# Altium footprint library FullyDigital.PcbLib: 55 footprints (part 1 of 4)
Each footprint in its own frame and in the unit in brackets; x right, y up, seen from the top. Pads: shape width x height; smd on the part's side, far side on the other; paste and mask are expansions set on the pad; w line width, h text height; cw(c..) or ccw(c..) is an arc to the next point about the centre after c.
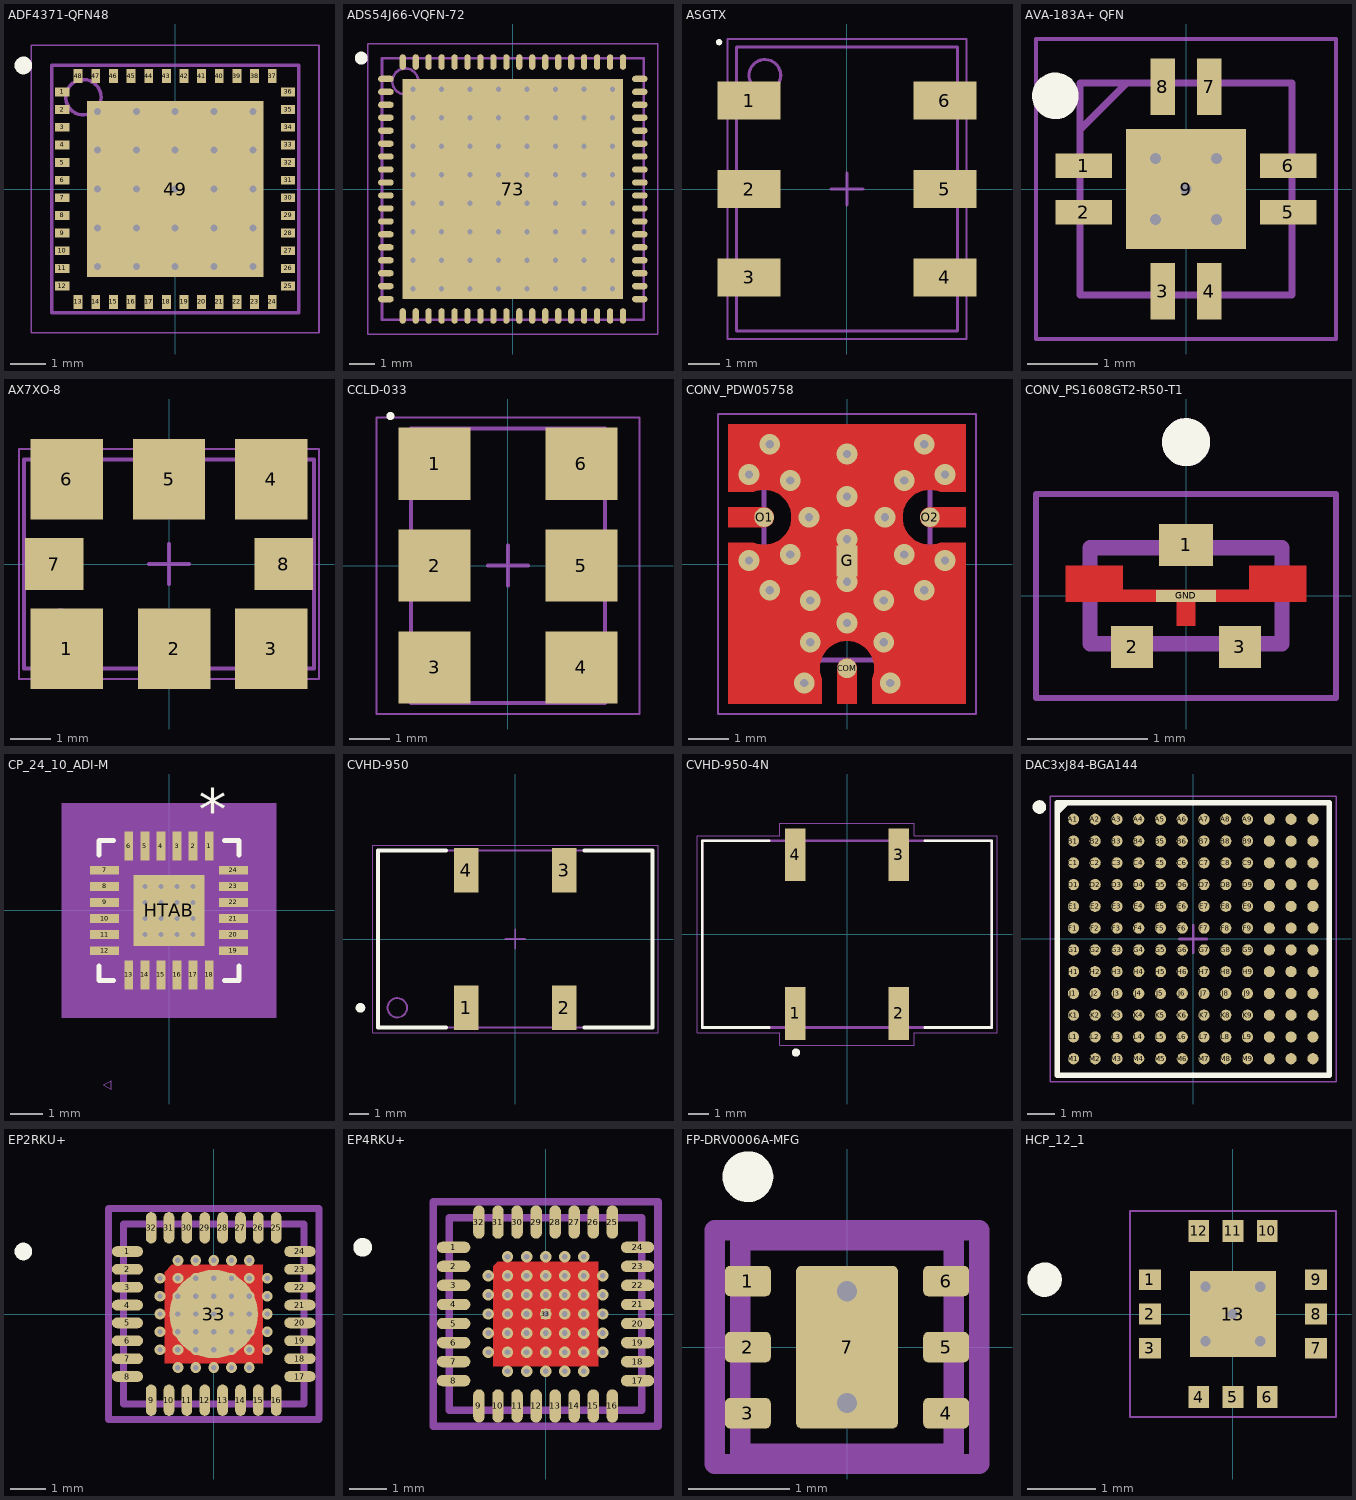
[diagram p0: the footprints below, top view; thin cyan lines are the x and y axes]

## ADF4371-QFN48 [mm] "QFN, 48-Leads, Body 7.00x7.00mm, Pitch 0.50mm, Thermal Pad 6.00x6.00mm, IPC Medium Density"
height 1.16
pads (49):
  rect 0.4x0.25 smd: 1(-3.2,2.75) 2(-3.2,2.25) 3(-3.2,1.75) 4(-3.2,1.25) 5(-3.2,0.75) 6(-3.2,0.25) 7(-3.2,-0.25) 8(-3.2,-0.75) 9(-3.2,-1.25) 10(-3.2,-1.75) 11(-3.2,-2.25) 12(-3.2,-2.75) 25(3.2,-2.75) 26(3.2,-2.25) 27(3.2,-1.75) 28(3.2,-1.25) 29(3.2,-0.75) 30(3.2,-0.25) 31(3.2,0.25) 32(3.2,0.75) 33(3.2,1.25) 34(3.2,1.75) 35(3.2,2.25) 36(3.2,2.75)
  rect 0.25x0.4 smd: 13(-2.75,-3.2) 14(-2.25,-3.2) 15(-1.75,-3.2) 16(-1.25,-3.2) 17(-0.75,-3.2) 18(-0.25,-3.2) 19(0.25,-3.2) 20(0.75,-3.2) 21(1.25,-3.2) 22(1.75,-3.2) 23(2.25,-3.2) 24(2.75,-3.2) 37(2.75,3.2) 38(2.25,3.2) 39(1.75,3.2) 40(1.25,3.2) 41(0.75,3.2) 42(0.25,3.2) 43(-0.25,3.2) 44(-0.75,3.2) 45(-1.25,3.2) 46(-1.75,3.2) 47(-2.25,3.2) 48(-2.75,3.2)
  rect 5x5 smd: 49(0,0)
via -2.2,2.2 diameter 0.5 hole 0.2
via -1.1,2.2 diameter 0.5 hole 0.2
via 0,2.2 diameter 0.5 hole 0.2
via 1.1,2.2 diameter 0.5 hole 0.2
via 2.2,2.2 diameter 0.5 hole 0.2
via -2.2,1.1 diameter 0.5 hole 0.2
via -1.1,1.1 diameter 0.5 hole 0.2
via 0,1.1 diameter 0.5 hole 0.2
via 1.1,1.1 diameter 0.5 hole 0.2
via 2.2,1.1 diameter 0.5 hole 0.2
via -2.2,0 diameter 0.5 hole 0.2
via -1.1,0 diameter 0.5 hole 0.2
via 0,0 diameter 0.5 hole 0.2
via 1.1,0 diameter 0.5 hole 0.2
via 2.2,0 diameter 0.5 hole 0.2
via -2.2,-1.1 diameter 0.5 hole 0.2
via -1.1,-1.1 diameter 0.5 hole 0.2
via 0,-1.1 diameter 0.5 hole 0.2
via 1.1,-1.1 diameter 0.5 hole 0.2
via 2.2,-1.1 diameter 0.5 hole 0.2
via -2.2,-2.2 diameter 0.5 hole 0.2
via -1.1,-2.2 diameter 0.5 hole 0.2
via 0,-2.2 diameter 0.5 hole 0.2
via 1.1,-2.2 diameter 0.5 hole 0.2
via 2.2,-2.2 diameter 0.5 hole 0.2
Top Overlay:
  circle w0.25: c-4.3,3.5 r0.125
Mechanical 13:
  circle w0.1: c-2.6,2.6 r0.5
  lines w0.1: -3.5,-3.5 -3.5,3.5 3.5,3.5 3.5,-3.5 -3.5,-3.5
Mechanical 15:
  lines w0.05: -4.075,-4.075 -4.075,4.075 4.075,4.075 4.075,-4.075 -4.075,-4.075
  lines w0.1: -0.5,0 0.5,0 ; 0,-0.5 0,0.5
3D body: height 1.16, standoff 0.4, extent -3.5,-3.5 3.5,3.5

## ADS54J66-VQFN-72 [mm] "QFN, 72-Leads, Body 10.00x10.00mm, Pitch 0.50mm, Thermal Pad 8.50x8.50mm, IPC Medium Density"
height 0.9
pads (73):
  oval 0.6x0.24 smd mask+0.051: 1(-4.9,4.25) 2(-4.9,3.75) 3(-4.9,3.25) 4(-4.9,2.75) 5(-4.9,2.25) 6(-4.9,1.75) 7(-4.9,1.25) 8(-4.9,0.75) 9(-4.9,0.25) 10(-4.9,-0.25) 11(-4.9,-0.75) 12(-4.9,-1.25) 13(-4.9,-1.75) 14(-4.9,-2.25) 15(-4.9,-2.75) 16(-4.9,-3.25) 17(-4.9,-3.75) 18(-4.9,-4.25) 37(4.9,-4.25) 38(4.9,-3.75) 39(4.9,-3.25) 40(4.9,-2.75) 41(4.9,-2.25) 42(4.9,-1.75) 43(4.9,-1.25) 44(4.9,-0.75) 45(4.9,-0.25) 46(4.9,0.25) 47(4.9,0.75) 48(4.9,1.25) 49(4.9,1.75) 50(4.9,2.25) 51(4.9,2.75) 52(4.9,3.25) 53(4.9,3.75) 54(4.9,4.25)
  oval 0.24x0.6 smd mask+0.051: 19(-4.25,-4.9) 20(-3.75,-4.9) 21(-3.25,-4.9) 22(-2.75,-4.9) 23(-2.25,-4.9) 24(-1.75,-4.9) 25(-1.25,-4.9) 26(-0.75,-4.9) 27(-0.25,-4.9) 28(0.25,-4.9) 29(0.75,-4.9) 30(1.25,-4.9) 31(1.75,-4.9) 32(2.25,-4.9) 33(2.75,-4.9) 34(3.25,-4.9) 35(3.75,-4.9) 36(4.25,-4.9) 55(4.25,4.9) 56(3.75,4.9) 57(3.25,4.9) 58(2.75,4.9) 59(2.25,4.9) 60(1.75,4.9) 61(1.25,4.9) 62(0.75,4.9) 63(0.25,4.9) 64(-0.25,4.9) 65(-0.75,4.9) 66(-1.25,4.9) 67(-1.75,4.9) 68(-2.25,4.9) 69(-2.75,4.9) 70(-3.25,4.9) 71(-3.75,4.9) 72(-4.25,4.9)
  rect 8.5x8.5 smd mask+0.051: 73(0,0)
via -3.85,3.85 diameter 0.5 hole 0.2
via -2.75,3.85 diameter 0.5 hole 0.2
via -1.65,3.85 diameter 0.5 hole 0.2
via -0.55,3.85 diameter 0.5 hole 0.2
via 0.55,3.85 diameter 0.5 hole 0.2
via 1.65,3.85 diameter 0.5 hole 0.2
via 2.75,3.85 diameter 0.5 hole 0.2
via 3.85,3.85 diameter 0.5 hole 0.2
via -3.85,2.75 diameter 0.5 hole 0.2
via -2.75,2.75 diameter 0.5 hole 0.2
via -1.65,2.75 diameter 0.5 hole 0.2
via -0.55,2.75 diameter 0.5 hole 0.2
via 0.55,2.75 diameter 0.5 hole 0.2
via 1.65,2.75 diameter 0.5 hole 0.2
via 2.75,2.75 diameter 0.5 hole 0.2
via 3.85,2.75 diameter 0.5 hole 0.2
via -3.85,1.65 diameter 0.5 hole 0.2
via -2.75,1.65 diameter 0.5 hole 0.2
via -1.65,1.65 diameter 0.5 hole 0.2
via -0.55,1.65 diameter 0.5 hole 0.2
via 0.55,1.65 diameter 0.5 hole 0.2
via 1.65,1.65 diameter 0.5 hole 0.2
via 2.75,1.65 diameter 0.5 hole 0.2
via 3.85,1.65 diameter 0.5 hole 0.2
via -3.85,0.55 diameter 0.5 hole 0.2
via -2.75,0.55 diameter 0.5 hole 0.2
via -1.65,0.55 diameter 0.5 hole 0.2
via -0.55,0.55 diameter 0.5 hole 0.2
via 0.55,0.55 diameter 0.5 hole 0.2
via 1.65,0.55 diameter 0.5 hole 0.2
via 2.75,0.55 diameter 0.5 hole 0.2
via 3.85,0.55 diameter 0.5 hole 0.2
via -3.85,-0.55 diameter 0.5 hole 0.2
via -2.75,-0.55 diameter 0.5 hole 0.2
via -1.65,-0.55 diameter 0.5 hole 0.2
via -0.55,-0.55 diameter 0.5 hole 0.2
via 0.55,-0.55 diameter 0.5 hole 0.2
via 1.65,-0.55 diameter 0.5 hole 0.2
via 2.75,-0.55 diameter 0.5 hole 0.2
via 3.85,-0.55 diameter 0.5 hole 0.2
via -3.85,-1.65 diameter 0.5 hole 0.2
via -2.75,-1.65 diameter 0.5 hole 0.2
via -1.65,-1.65 diameter 0.5 hole 0.2
via -0.55,-1.65 diameter 0.5 hole 0.2
via 0.55,-1.65 diameter 0.5 hole 0.2
via 1.65,-1.65 diameter 0.5 hole 0.2
via 2.75,-1.65 diameter 0.5 hole 0.2
via 3.85,-1.65 diameter 0.5 hole 0.2
via -3.85,-2.75 diameter 0.5 hole 0.2
via -2.75,-2.75 diameter 0.5 hole 0.2
via -1.65,-2.75 diameter 0.5 hole 0.2
via -0.55,-2.75 diameter 0.5 hole 0.2
via 0.55,-2.75 diameter 0.5 hole 0.2
via 1.65,-2.75 diameter 0.5 hole 0.2
via 2.75,-2.75 diameter 0.5 hole 0.2
via 3.85,-2.75 diameter 0.5 hole 0.2
via -3.85,-3.85 diameter 0.5 hole 0.2
via -2.75,-3.85 diameter 0.5 hole 0.2
via -1.65,-3.85 diameter 0.5 hole 0.2
via -0.55,-3.85 diameter 0.5 hole 0.2
via 0.55,-3.85 diameter 0.5 hole 0.2
via 1.65,-3.85 diameter 0.5 hole 0.2
via 2.75,-3.85 diameter 0.5 hole 0.2
via 3.85,-3.85 diameter 0.5 hole 0.2
Top Overlay:
  circle w0.25: c-5.85,5.05 r0.125
Mechanical 13:
  circle w0.1: c-4.15,4.15 r0.5
  lines w0.1: -5.05,-5.05 -5.05,5.05 5.05,5.05 5.05,-5.05 -5.05,-5.05
Mechanical 15:
  lines w0.05: -5.6,-5.6 -5.6,5.6 5.6,5.6 5.6,-5.6 -5.6,-5.6
  lines w0.1: -0.5,0 0.5,0 ; 0,-0.5 0,0.5
3D body: height 0.9, standoff 0.05, extent -5.05,-5.05 5.05,5.05

## ASGTX [mm] "6-Leads, Body 9.00x7.00mm, Pitch 2.80mm, IPC Medium Density"
height 2.24
pads (6):
  rect 2x1.2 smd: 1(-3.1,2.8) 2(-3.1,0) 3(-3.1,-2.8) 4(3.1,-2.8) 5(3.1,0) 6(3.1,2.8)
Top Overlay:
  circle w0.1: c-4.05,4.65 r0.05
Mechanical 13:
  circle w0.1: c-2.6,3.6 r0.5
  lines w0.1: -3.5,-4.5 3.5,-4.5 3.5,4.5 -3.5,4.5 -3.5,-4.5
Mechanical 15:
  lines w0.05: -3.785,-4.75 3.785,-4.75 3.785,4.75 -3.785,4.75 -3.785,-4.75
  lines w0.1: -0.5,0 0.5,0 ; 0,-0.5 0,0.5
3D body: height 2.24, standoff 0.1, extent -3.5,-4.5 3.5,4.5

## AVA-183A+ QFN [mm] "QFN66P300X300X89-9N"
pads (9):
  rect 0.8x0.35 smd mask+0.025: 1(-1.45,0.33) 2(-1.45,-0.33) 5(1.45,-0.33) 6(1.45,0.33)
  rect 0.35x0.8 smd mask+0.025: 3(-0.33,-1.45) 4(0.33,-1.45) 7(0.33,1.45) 8(-0.33,1.45)
  rect 1.702x1.702 smd mask+0.025: 9(0,0)
via 0.432,-0.432 diameter 0.305 hole 0.152
via -0.432,-0.432 diameter 0.305 hole 0.152
via -0.432,0.432 diameter 0.305 hole 0.152
via 0.432,0.432 diameter 0.305 hole 0.152
via 0,0 diameter 0.305 hole 0.152
Top Overlay:
  circle w0.33: c-1.85,1.32 r0.165
Mechanical 13:
  lines w0.1: -1.5,0.84 -0.84,1.5 ; -1.5,-1.5 1.5,-1.5 1.5,1.5 -1.5,1.5 -1.5,-1.5
Mechanical 15:
  lines w0.05: -2.125,-2.125 2.125,-2.125 2.125,2.125 -2.125,2.125 -2.125,-2.125
3D body "AVA-183A+.stp": height 0.89, standoff 0, extent -1.55,-1.55 1.55,1.55

## AX7XO-8 [mm] "AX7 oscilliator, 8-Leads, Body 5.00x7.00mm, IPC Medium Density"
height 1.9
pads (8):
  rect 1.8x2 smd: 1(-2.54,-2.1) 2(0.127,-2.1) 3(2.54,-2.1) 4(2.54,2.1) 5(0,2.1) 6(-2.54,2.1)
  rect 1.45x1.3 smd: 7(-2.85,0) 8(2.85,0)
Mechanical 13:
  circle w0.1: c-2.667,-1.651 r0.5
  lines w0.1: -3.6,-2.6 -3.6,2.6 3.6,2.6 3.6,-2.6 -3.6,-2.6
Mechanical 15:
  lines w0.05: -3.725,-2.85 -3.725,2.85 3.725,2.85 3.725,-2.85 -3.725,-2.85
  lines w0.1: -0.5,0 0.5,0 ; 0,-0.5 0,0.5
3D body: height 1.9, standoff 0, extent -3.6,-2.6 3.6,2.6

## CCLD-033 [mm] "6-Leads, Crystal Oscillator, 7mm x 5mm"
height 1.8
pads (6):
  rect 1.8x1.8 smd: 1(-1.83,2.54) 2(-1.83,0) 3(-1.83,-2.54) 4(1.83,-2.54) 5(1.83,0) 6(1.83,2.54)
Top Overlay:
  circle w0.1: c-2.932,3.732 r0.05
Mechanical 13:
  circle w0.1: c-1.525,2.525 r0.5
  lines w0.1: -2.425,-3.425 2.425,-3.425 2.425,3.425 -2.425,3.425 -2.425,-3.425
Mechanical 15:
  lines w0.05: -3.28,-3.7 3.28,-3.7 3.28,3.7 -3.28,3.7 -3.28,-3.7
  lines w0.1: -0.5,0 0.5,0 ; 0,-0.5 0,0.5
3D body: height 1.8, standoff 0.1, extent -2.425,-3.425 2.425,3.425

## CONV_PDW05758 [mm] "6 to 18 GHz Wilkinson  Power Divider"
height 0.508
pads (4):
  round 0.48 smd: COM(0,-2.555) O1(-2.03,1.145) O2(2.03,1.145)
  rect 0.508x0.762 smd paste-0.381 mask+0.102: G(0,0.076)
via 0,2.695 diameter 0.508 hole 0.203
via 0,1.655 diameter 0.508 hole 0.203
via 0,0.605 diameter 0.508 hole 0.203
via 0,-0.435 diameter 0.508 hole 0.203
via 0,-1.445 diameter 0.508 hole 0.203
via 1.89,2.935 diameter 0.508 hole 0.203
via 2.4,2.195 diameter 0.508 hole 0.203
via 1.4,2.045 diameter 0.508 hole 0.203
via 0.93,1.145 diameter 0.508 hole 0.203
via 1.4,0.235 diameter 0.508 hole 0.203
via 2.4,0.085 diameter 0.508 hole 0.203
via 1.89,-0.645 diameter 0.508 hole 0.203
via 0.9,-0.895 diameter 0.508 hole 0.203
via 0.9,-1.915 diameter 0.508 hole 0.203
via 1.06,-2.915 diameter 0.508 hole 0.203
via -1.05,-2.915 diameter 0.508 hole 0.203
via -0.9,-1.915 diameter 0.508 hole 0.203
via -0.9,-0.895 diameter 0.508 hole 0.203
via -1.89,-0.645 diameter 0.508 hole 0.203
via -2.4,0.085 diameter 0.508 hole 0.203
via -1.39,0.235 diameter 0.508 hole 0.203
via -0.93,1.145 diameter 0.508 hole 0.203
via -1.39,2.045 diameter 0.508 hole 0.203
via -1.89,2.935 diameter 0.508 hole 0.203
via -2.4,2.195 diameter 0.508 hole 0.203
Top Layer:
  region: 193 vertices and 0 holes, not listed, extent -2.91,-3.425 2.91,3.425
  region: -2.017,1.385 -2.005,1.384 -1.992,1.382 -1.98,1.38 -1.968,1.377 -1.956,1.373 -1.944,1.369 -1.932,1.364 -1.921,1.359 -1.91,1.353 -1.899,1.346 -1.889,1.339 -1.879,1.332 -1.869,1.323 -1.86,1.315 -1.852,1.306 -1.843,1.296 -1.836,1.286 -1.829,1.276 -1.822,1.265 -1.816,1.254 -1.811,1.243 -1.806,1.231 -1.802,1.219 -1.798,1.207 -1.795,1.195 -1.793,1.183 -1.791,1.17 -1.79,1.158 -1.79,1.145 -1.79,1.132 -1.791,1.12 -1.793,1.107 -1.795,1.095 -1.798,1.083 -1.802,1.071 -1.806,1.059 -1.811,1.047 -1.816,1.036 -1.822,1.025 -1.829,1.014 -1.836,1.004 -1.843,0.994 -1.852,0.984 -1.86,0.975 -1.869,0.967 -1.879,0.958 -1.889,0.951 -1.899,0.944 -1.91,0.937 -1.921,0.931 -1.932,0.926 -1.944,0.921 -1.956,0.917 -1.968,0.913 -1.98,0.91 -1.992,0.908 -2.005,0.906 -2.017,0.905 -2.03,0.905 -2.91,0.905 -2.91,1.385 -2.03,1.385
  region: 2.91,0.905 2.03,0.905 2.017,0.905 2.005,0.906 1.992,0.908 1.98,0.91 1.968,0.913 1.956,0.917 1.944,0.921 1.932,0.926 1.921,0.931 1.91,0.937 1.899,0.944 1.889,0.951 1.879,0.958 1.869,0.967 1.86,0.975 1.852,0.984 1.843,0.994 1.836,1.004 1.829,1.014 1.822,1.025 1.816,1.036 1.811,1.047 1.806,1.059 1.802,1.071 1.798,1.083 1.795,1.095 1.793,1.107 1.791,1.12 1.79,1.132 1.79,1.145 1.79,1.158 1.791,1.17 1.793,1.183 1.795,1.195 1.798,1.207 1.802,1.219 1.806,1.231 1.811,1.243 1.816,1.254 1.822,1.265 1.829,1.276 1.836,1.286 1.843,1.296 1.852,1.306 1.86,1.315 1.869,1.323 1.879,1.332 1.889,1.339 1.899,1.346 1.91,1.353 1.921,1.359 1.932,1.364 1.944,1.369 1.956,1.373 1.968,1.377 1.98,1.38 1.992,1.382 2.005,1.384 2.017,1.385 2.03,1.385 2.91,1.385
  region: 0.013,-2.315 0.025,-2.316 0.038,-2.318 0.05,-2.32 0.062,-2.323 0.074,-2.327 0.086,-2.331 0.098,-2.336 0.109,-2.341 0.12,-2.347 0.131,-2.354 0.141,-2.361 0.151,-2.368 0.161,-2.377 0.17,-2.385 0.178,-2.394 0.187,-2.404 0.194,-2.414 0.201,-2.424 0.208,-2.435 0.214,-2.446 0.219,-2.457 0.224,-2.469 0.228,-2.481 0.232,-2.493 0.235,-2.505 0.237,-2.517 0.239,-2.53 0.24,-2.542 0.24,-2.555 0.24,-3.425 -0.24,-3.425 -0.24,-2.555 -0.24,-2.542 -0.239,-2.53 -0.237,-2.517 -0.235,-2.505 -0.232,-2.493 -0.228,-2.481 -0.224,-2.469 -0.219,-2.457 -0.214,-2.446 -0.208,-2.435 -0.201,-2.424 -0.194,-2.414 -0.187,-2.404 -0.178,-2.394 -0.17,-2.385 -0.161,-2.377 -0.151,-2.368 -0.141,-2.361 -0.131,-2.354 -0.12,-2.347 -0.109,-2.341 -0.098,-2.336 -0.086,-2.331 -0.074,-2.327 -0.062,-2.323 -0.05,-2.32 -0.038,-2.318 -0.025,-2.316 -0.013,-2.315 0,-2.315
Top Paste:
  region: 2.035,1.817 1.991,1.816 1.947,1.812 1.903,1.805 1.86,1.796 1.818,1.783 1.777,1.768 1.737,1.75 1.698,1.729 1.66,1.706 1.624,1.681 1.59,1.653 1.558,1.623 1.528,1.591 1.5,1.557 1.474,1.521 1.451,1.484 1.43,1.445 1.411,1.405 1.396,1.364 1.383,1.321 1.373,1.279 1.366,1.235 1.361,1.191 1.36,1.145 1.361,1.099 1.366,1.055 1.373,1.011 1.383,0.969 1.396,0.926 1.411,0.885 1.43,0.845 1.451,0.806 1.474,0.769 1.5,0.733 1.528,0.699 1.558,0.667 1.59,0.637 1.624,0.609 1.66,0.584 1.698,0.561 1.737,0.54 1.777,0.522 1.818,0.507 1.86,0.494 1.903,0.485 1.947,0.478 1.991,0.474 2.035,0.473 2.035,-2.34 0.637,-2.34 0.621,-2.299 0.604,-2.259 0.583,-2.22 0.56,-2.183 0.535,-2.147 0.507,-2.113 0.478,-2.081 0.446,-2.051 0.412,-2.024 0.377,-1.998 0.339,-1.975 0.301,-1.954 0.261,-1.936 0.22,-1.921 0.178,-1.908 0.136,-1.898 0.093,-1.891 0.049,-1.886 0,-1.885 -0.049,-1.886 -0.093,-1.891 -0.136,-1.898 -0.178,-1.908 -0.22,-1.921 -0.261,-1.936 -0.301,-1.954 -0.339,-1.975 -0.377,-1.998 -0.412,-2.024 -0.446,-2.051 -0.478,-2.081 -0.507,-2.113 -0.535,-2.147 -0.56,-2.183 -0.583,-2.22 -0.604,-2.259 -0.621,-2.299 -0.637,-2.34 -2.035,-2.34 -2.035,0.473 -1.991,0.474 -1.947,0.478 -1.903,0.485 -1.86,0.494 -1.818,0.507 -1.777,0.522 -1.737,0.54 -1.698,0.561 -1.66,0.584 -1.624,0.609 -1.59,0.637 -1.558,0.667 -1.528,0.699 -1.5,0.733 -1.474,0.769 -1.451,0.806 -1.43,0.845 -1.411,0.885 -1.396,0.926 -1.383,0.969 -1.373,1.011 -1.366,1.055 -1.361,1.099 -1.36,1.145 -1.361,1.191 -1.366,1.235 -1.373,1.279 -1.383,1.321 -1.396,1.364 -1.411,1.405 -1.43,1.445 -1.451,1.484 -1.474,1.521 -1.5,1.557 -1.528,1.591 -1.558,1.623 -1.59,1.653 -1.624,1.681 -1.66,1.706 -1.698,1.729 -1.737,1.75 -1.777,1.768 -1.818,1.783 -1.86,1.796 -1.903,1.805 -1.947,1.812 -1.991,1.816 -2.035,1.817 -2.035,2.35 2.035,2.35
Top Solder:
  region: 2.035,1.817 1.991,1.816 1.947,1.812 1.903,1.805 1.86,1.796 1.818,1.783 1.777,1.768 1.737,1.75 1.698,1.729 1.66,1.706 1.624,1.681 1.59,1.653 1.558,1.623 1.528,1.591 1.5,1.557 1.474,1.521 1.451,1.484 1.43,1.445 1.411,1.405 1.396,1.364 1.383,1.321 1.373,1.279 1.366,1.235 1.361,1.191 1.36,1.145 1.361,1.099 1.366,1.055 1.373,1.011 1.383,0.969 1.396,0.926 1.411,0.885 1.43,0.845 1.451,0.806 1.474,0.769 1.5,0.733 1.528,0.699 1.558,0.667 1.59,0.637 1.624,0.609 1.66,0.584 1.698,0.561 1.737,0.54 1.777,0.522 1.818,0.507 1.86,0.494 1.903,0.485 1.947,0.478 1.991,0.474 2.035,0.473 2.035,-2.34 0.637,-2.34 0.621,-2.299 0.604,-2.259 0.583,-2.22 0.56,-2.183 0.535,-2.147 0.507,-2.113 0.478,-2.081 0.446,-2.051 0.412,-2.024 0.377,-1.998 0.339,-1.975 0.301,-1.954 0.261,-1.936 0.22,-1.921 0.178,-1.908 0.136,-1.898 0.093,-1.891 0.049,-1.886 0,-1.885 -0.049,-1.886 -0.093,-1.891 -0.136,-1.898 -0.178,-1.908 -0.22,-1.921 -0.261,-1.936 -0.301,-1.954 -0.339,-1.975 -0.377,-1.998 -0.412,-2.024 -0.446,-2.051 -0.478,-2.081 -0.507,-2.113 -0.535,-2.147 -0.56,-2.183 -0.583,-2.22 -0.604,-2.259 -0.621,-2.299 -0.637,-2.34 -2.035,-2.34 -2.035,0.473 -1.991,0.474 -1.947,0.478 -1.903,0.485 -1.86,0.494 -1.818,0.507 -1.777,0.522 -1.737,0.54 -1.698,0.561 -1.66,0.584 -1.624,0.609 -1.59,0.637 -1.558,0.667 -1.528,0.699 -1.5,0.733 -1.474,0.769 -1.451,0.806 -1.43,0.845 -1.411,0.885 -1.396,0.926 -1.383,0.969 -1.373,1.011 -1.366,1.055 -1.361,1.099 -1.36,1.145 -1.361,1.191 -1.366,1.235 -1.373,1.279 -1.383,1.321 -1.396,1.364 -1.411,1.405 -1.43,1.445 -1.451,1.484 -1.474,1.521 -1.5,1.557 -1.528,1.591 -1.558,1.623 -1.59,1.653 -1.624,1.681 -1.66,1.706 -1.698,1.729 -1.737,1.75 -1.777,1.768 -1.818,1.783 -1.86,1.796 -1.903,1.805 -1.947,1.812 -1.991,1.816 -2.035,1.817 -2.035,2.35 2.035,2.35
Mechanical 13:
  lines w0.127: -2.03,-2.35 2.03,-2.35 2.03,2.35 -2.03,2.35 -2.03,-2.35
Mechanical 15:
  lines w0.05: -3.16,-3.675 3.16,-3.675 3.16,3.675 -3.16,3.675 -3.16,-3.675

## CONV_PS1608GT2-R50-T1 [mm] "RF Power Divider 0 Hz ~ 20 GHz - 0603 (1608 Metric)"
pads (4):
  rect 0.45x0.35 smd mask+0.025: 1(0,0.425)
  rect 0.35x0.35 smd mask+0.025: 2(-0.45,-0.425) 3(0.45,-0.425)
  rect 0.5x0.1 smd paste-1 mask+0: GND(0,0)
Top Layer:
  region: 1,-0.05 0.075,-0.05 0.075,-0.25 -0.075,-0.25 -0.075,-0.05 -1,-0.05 -1,0.25 -0.525,0.25 -0.525,0.05 0.525,0.05 0.525,0.25 1,0.25
Top Overlay:
  circle w0.2: c0,1.28 r0.1
Top Paste:
  region: 1,-0.05 0.075,-0.05 0.075,-0.25 -0.075,-0.25 -0.075,-0.05 -1,-0.05 -1,0.25 -0.525,0.25 -0.525,0.05 0.525,0.05 0.525,0.25 1,0.25
Mechanical 13:
  circle w0.2: c0,1.28 r0.1
  lines w0.127: -0.8,-0.4 -0.8,0.4 0.8,0.4 0.8,-0.4 -0.8,-0.4
Mechanical 15:
  lines w0.05: -1.25,-0.85 -1.25,0.85 1.25,0.85 1.25,-0.85 -1.25,-0.85

## CP_24_10_ADI-M [mm] "ADF4159CCPZ"
height 0.75
pads (25):
  rect 0.275x0.9 smd paste+0 mask+0: 1(1.25,2) 2(0.75,2) 3(0.25,2) 4(-0.25,2) 5(-0.75,2) 6(-1.25,2) 13(-1.25,-2) 14(-0.75,-2) 15(-0.25,-2) 16(0.25,-2) 17(0.75,-2) 18(1.25,-2)
  rect 0.9x0.275 smd paste+0 mask+0: 7(-2,1.25) 8(-2,0.75) 9(-2,0.25) 10(-2,-0.25) 11(-2,-0.75) 12(-2,-1.25) 19(2,-1.25) 20(2,-0.75) 21(2,-0.25) 22(2,0.25) 23(2,0.75) 24(2,1.25)
  rect 2.2x2.2 smd paste+0 mask+0: HTAB(0,0)
via 0.75,-0.75 diameter 0.305 hole 0.152
via 0.25,-0.75 diameter 0.305 hole 0.152
via -0.25,-0.75 diameter 0.305 hole 0.152
via -0.75,-0.75 diameter 0.305 hole 0.152
via -0.75,-0.25 diameter 0.305 hole 0.152
via -0.75,0.25 diameter 0.305 hole 0.152
via -0.75,0.75 diameter 0.305 hole 0.152
via -0.25,0.75 diameter 0.305 hole 0.152
via 0.25,0.75 diameter 0.305 hole 0.152
via 0.75,0.75 diameter 0.305 hole 0.152
via 0.75,0.25 diameter 0.305 hole 0.152
via 0.75,-0.25 diameter 0.305 hole 0.152
via 0.25,-0.25 diameter 0.305 hole 0.152
via -0.25,-0.25 diameter 0.305 hole 0.152
via -0.25,0.25 diameter 0.305 hole 0.152
via 0.25,0.25 diameter 0.305 hole 0.152
Top Overlay:
  lines w0.152: -2.177,-1.72 -2.177,-2.177 -1.72,-2.177 ; -2.177,1.72 -2.177,2.177 -1.72,2.177 ; 1.72,-2.177 2.177,-2.177 2.177,-1.72 ; 1.72,2.177 2.177,2.177 2.177,1.72
  text "*" at 0.933,2.508 h1.27
Mechanical 7:
  lines w0.025: -2.05,-5.425 -1.796,-5.298 -1.796,-5.552 -2.05,-5.425
Mechanical 13:
  region: 3.339,-3.339 -3.339,-3.339 -3.339,3.339 3.339,3.339
  lines w0.025: -2.05,-2.05 2.05,-2.05 2.05,2.05 -2.05,2.05 -2.05,-2.05 ; -2.05,-1.4 -2.05,-1.1 -2.05,-1.4 ; -2.05,-0.9 -2.05,-0.6 -2.05,-0.9 ; -2.05,-0.4 -2.05,-0.1 -2.05,-0.4 ; -2.05,0.1 -2.05,0.4 -2.05,0.1 ; -2.05,0.6 -2.05,0.9 -2.05,0.6 ; -2.05,1.1 -2.05,1.4 -2.05,1.1 ; -1.4,-2.05 -1.1,-2.05 -1.4,-2.05 ; -1.4,2.05 -1.1,2.05 -1.4,2.05 ; -0.9,-2.05 -0.6,-2.05 -0.9,-2.05 ; -0.9,2.05 -0.6,2.05 -0.9,2.05 ; -0.4,-2.05 -0.1,-2.05 -0.4,-2.05 ; -0.4,2.05 -0.1,2.05 -0.4,2.05 ; 0.1,-2.05 0.4,-2.05 0.1,-2.05 ; 0.1,2.05 0.4,2.05 0.1,2.05 ; 0.6,-2.05 0.9,-2.05 0.6,-2.05 ; 0.6,2.05 0.9,2.05 0.6,2.05 ; 1.1,-2.05 1.4,-2.05 1.1,-2.05 ; 1.1,2.05 1.4,2.05 1.1,2.05 ; 2.05,-1.4 2.05,-1.1 2.05,-1.4 ; 2.05,-0.9 2.05,-0.6 2.05,-0.9 ; 2.05,-0.4 2.05,-0.1 2.05,-0.4 ; 2.05,0.1 2.05,0.4 2.05,0.1 ; 2.05,0.6 2.05,0.9 2.05,0.6 ; 2.05,1.1 2.05,1.4 2.05,1.1
  text "*" at 1.091,1.53 h0.64
Mechanical 15:
  region: -1.896,-2.558 -2.558,-2.558 -2.558,-1.896 -2.958,-1.896 -2.958,1.896 -2.558,1.896 -2.558,2.558 -1.896,2.558 -1.896,2.958 1.896,2.958 1.896,2.558 2.558,2.558 2.558,1.896 2.958,1.896 2.958,-1.896 2.558,-1.896 2.558,-2.558 1.896,-2.558 1.896,-2.958 -1.896,-2.958
  lines w0.152: -2.958,-1.896 -2.558,-1.896 -2.558,-2.558 -1.896,-2.558 -1.896,-2.958 1.896,-2.958 1.896,-2.558 2.558,-2.558 2.558,-1.896 2.958,-1.896 2.958,1.896 2.558,1.896 2.558,2.558 1.896,2.558 1.896,2.958 -1.896,2.958 -1.896,2.558 -2.558,2.558 -2.558,1.896 -2.958,1.896 -2.958,-1.896
3D body: height 0.25, standoff 0, extent 0,0 0.254,0.254

## CVHD-950 [mm] "Ultra-Low Phase Noise Oscillators"
height 5.3
pads (4):
  rect 1.27x2.28 smd: 1(-2.54,-3.555) 2(2.54,-3.555) 3(2.54,3.555) 4(-2.54,3.555)
Top Overlay:
  circle w0.25: c-8.001,-3.555 r0.125
  lines w0.2: -7.1,-1.505 -7.1,4.57 -3.575,4.57 ; -7.1,1.505 -7.1,-4.57 -3.575,-4.57 ; 3.575,-4.57 7.1,-4.57 7.1,1.505 ; 3.575,4.57 7.1,4.57 7.1,-1.505
Mechanical 13:
  circle w0.1: c-6.096,-3.555 r0.5
  lines w0.1: -7.1,-4.57 7.1,-4.57 7.1,4.57 -7.1,4.57 -7.1,-4.57
Mechanical 15:
  lines w0.05: -7.375,-4.85 7.375,-4.85 7.375,4.85 -7.375,4.85 -7.375,-4.85
  lines w0.1: -0.5,0 0.5,0 ; 0,-0.5 0,0.5
3D body: height 5.3, standoff 0.05, extent -7.1,-4.57 7.1,4.57

## CVHD-950-4N [mm] "CVHD-950 VCXO Ultra-Low Phase Noise Oscillator"
pads (4):
  rect 1.02x2.58 smd: 1(-2.54,-3.885) 2(2.54,-3.885) 3(2.54,3.885) 4(-2.54,3.885)
Top Overlay:
  circle w0.2: c-2.5,-5.8 r0.1
  lines w0.127: -3.81,-4.57 -7.1,-4.57 -7.1,4.57 -3.81,4.57 ; 3.81,-4.57 7.1,-4.57 7.1,4.57 3.81,4.57
Mechanical 13:
  lines w0.127: -7.1,-4.57 -7.1,4.57 ; -7.1,-4.57 7.1,-4.57 ; -7.1,-4.57 -7.1,4.57 ; -7.1,-4.57 7.1,-4.57 ; -7.1,4.57 7.1,4.57 ; -7.1,4.57 7.1,4.57 ; 7.1,-4.57 7.1,4.57 ; 7.1,-4.57 7.1,4.57
Mechanical 15:
  lines w0.05: -7.35,-4.82 -7.35,4.82 -3.3,4.82 -3.3,5.43 3.3,5.43 3.3,4.82 7.35,4.82 7.35,-4.82 3.3,-4.82 3.3,-5.43 -3.3,-5.43 -3.3,-4.82 -7.35,-4.82

## DAC3xJ84-BGA144 [mm] "BGA, 144-Leads, Body 10.00x10.00mmx1.94mm, Pitch 0.80mm"
height 1.94
pads (144):
  round 0.41 smd: A1(-4.4,4.4) A2(-3.6,4.4) A3(-2.8,4.4) A4(-2,4.4) A5(-1.2,4.4) A6(-0.4,4.4) A7(0.4,4.4) A8(1.2,4.4) A9(2,4.4) A10(2.8,4.4) A11(3.6,4.4) A12(4.4,4.4) B1(-4.4,3.6) B2(-3.6,3.6) B3(-2.8,3.6) B4(-2,3.6) B5(-1.2,3.6) B6(-0.4,3.6) B7(0.4,3.6) B8(1.2,3.6) B9(2,3.6) B10(2.8,3.6) B11(3.6,3.6) B12(4.4,3.6) C1(-4.4,2.8) C2(-3.6,2.8) C3(-2.8,2.8) C4(-2,2.8) C5(-1.2,2.8) C6(-0.4,2.8) C7(0.4,2.8) C8(1.2,2.8) C9(2,2.8) C10(2.8,2.8) C11(3.6,2.8) C12(4.4,2.8) D1(-4.4,2) D2(-3.6,2) D3(-2.8,2) D4(-2,2) D5(-1.2,2) D6(-0.4,2) D7(0.4,2) D8(1.2,2) D9(2,2) D10(2.8,2) D11(3.6,2) D12(4.4,2) E1(-4.4,1.2) E2(-3.6,1.2) E3(-2.8,1.2) E4(-2,1.2) E5(-1.2,1.2) E6(-0.4,1.2) E7(0.4,1.2) E8(1.2,1.2) E9(2,1.2) E10(2.8,1.2) E11(3.6,1.2) E12(4.4,1.2) F1(-4.4,0.4) F2(-3.6,0.4) F3(-2.8,0.4) F4(-2,0.4) F5(-1.2,0.4) F6(-0.4,0.4) F7(0.4,0.4) F8(1.2,0.4) F9(2,0.4) F10(2.8,0.4) F11(3.6,0.4) F12(4.4,0.4) G1(-4.4,-0.4) G2(-3.6,-0.4) G3(-2.8,-0.4) G4(-2,-0.4) G5(-1.2,-0.4) G6(-0.4,-0.4) G7(0.4,-0.4) G8(1.2,-0.4) G9(2,-0.4) G10(2.8,-0.4) G11(3.6,-0.4) G12(4.4,-0.4) H1(-4.4,-1.2) H2(-3.6,-1.2) H3(-2.8,-1.2) H4(-2,-1.2) H5(-1.2,-1.2) H6(-0.4,-1.2) H7(0.4,-1.2) H8(1.2,-1.2) H9(2,-1.2) H10(2.8,-1.2) H11(3.6,-1.2) H12(4.4,-1.2) J1(-4.4,-2) J2(-3.6,-2) J3(-2.8,-2) J4(-2,-2) J5(-1.2,-2) J6(-0.4,-2) J7(0.4,-2) J8(1.2,-2) J9(2,-2) J10(2.8,-2) J11(3.6,-2) J12(4.4,-2) K1(-4.4,-2.8) K2(-3.6,-2.8) K3(-2.8,-2.8) K4(-2,-2.8) K5(-1.2,-2.8) K6(-0.4,-2.8) K7(0.4,-2.8) K8(1.2,-2.8) K9(2,-2.8) K10(2.8,-2.8) K11(3.6,-2.8) K12(4.4,-2.8) L1(-4.4,-3.6) L2(-3.6,-3.6) L3(-2.8,-3.6) L4(-2,-3.6) L5(-1.2,-3.6) L6(-0.4,-3.6) L7(0.4,-3.6) L8(1.2,-3.6) L9(2,-3.6) L10(2.8,-3.6) L11(3.6,-3.6) L12(4.4,-3.6) M1(-4.4,-4.4) M2(-3.6,-4.4) M3(-2.8,-4.4) M4(-2,-4.4) M5(-1.2,-4.4) M6(-0.4,-4.4) M7(0.4,-4.4) M8(1.2,-4.4) M9(2,-4.4) M10(2.8,-4.4) M11(3.6,-4.4) M12(4.4,-4.4)
Top Overlay:
  circle w0.25: c-5.65,4.85 r0.125
  region: -4.656,5 -5,4.656 -5,5
  lines w0.2: -5,4.656 -4.656,5 ; -5,-5 5,-5 5,5 -5,5 -5,-5
Mechanical 13:
  lines w0.1: -5,-5 5,-5 5,5 -5,5 -5,-5
Mechanical 15:
  lines w0.05: -5.25,-5.25 5.25,-5.25 5.25,5.25 -5.25,5.25 -5.25,-5.25
  lines w0.1: -0.5,0 0.5,0 ; 0,-0.5 0,0.5
3D body: height 1.94, standoff 0.33, extent -5,-5 5,5

## EP2RKU+ [mil] "2 Ways MMIC Power Splitter, DC - 18000 MHz, 50?"
pads (33):
  rrect100% 35x12 smd paste+0 mask+0: 1(-96.5,70) 2(-96.5,50) 3(-96.5,30) 4(-96.5,10) 5(-96.5,-10) 6(-96.5,-30) 7(-96.5,-50) 8(-96.5,-70) 17(96.5,-70) 18(96.5,-50) 19(96.5,-30) 20(96.5,-10) 21(96.5,10) 22(96.5,30) 23(96.5,50) 24(96.5,70)
  rrect100% 12x35 smd paste+0 mask+0: 9(-70,-96.5) 10(-50,-96.5) 11(-30,-96.5) 12(-10,-96.5) 13(10,-96.5) 14(30,-96.5) 15(50,-96.5) 16(70,-96.5) 25(70,96.5) 26(50,96.5) 27(30,96.5) 28(10,96.5) 29(-10,96.5) 30(-30,96.5) 31(-50,96.5) 32(-70,96.5)
  round 99 smd paste+0 mask+0: 33(0,0)
via -60,0 diameter 12 hole 6
via -60,20 diameter 12 hole 6
via -60,40 diameter 12 hole 6
via -60,-20 diameter 12 hole 6
via -60,-40 diameter 12 hole 6
via -40,-60 diameter 12 hole 6
via -20,-60 diameter 12 hole 6
via 0,-60 diameter 12 hole 6
via 20,-60 diameter 12 hole 6
via 40,-60 diameter 12 hole 6
via 60,-40 diameter 12 hole 6
via 60,-20 diameter 12 hole 6
via 60,0 diameter 12 hole 6
via 60,20 diameter 12 hole 6
via 60,40 diameter 12 hole 6
via -40,60 diameter 12 hole 6
via -20,60 diameter 12 hole 6
via 0,60 diameter 12 hole 6
via 20,60 diameter 12 hole 6
via 40,60 diameter 12 hole 6
via -40,20 diameter 12 hole 6
via -40,0 diameter 12 hole 6
via -40,-20 diameter 12 hole 6
via -20,-40 diameter 12 hole 6
via 0,-40 diameter 12 hole 6
via 20,-40 diameter 12 hole 6
via 40,-20 diameter 12 hole 6
via 40,0 diameter 12 hole 6
via 40,20 diameter 12 hole 6
via 20,40 diameter 12 hole 6
via 0,40 diameter 12 hole 6
via -20,40 diameter 12 hole 6
via -40,40 diameter 12 hole 6
via -40,-40 diameter 12 hole 6
via 40,-40 diameter 12 hole 6
via 40,40 diameter 12 hole 6
via 0,20 diameter 12 hole 6
via -20,0 diameter 12 hole 6
via 0,-20 diameter 12 hole 6
via 20,-20 diameter 12 hole 6
via -20,20 diameter 12 hole 6
via -20,-20 diameter 12 hole 6
via 20,0 diameter 12 hole 6
via 20,20 diameter 12 hole 6
via 0,0 diameter 12 hole 6
Top Layer:
  region: -55,-55 55,-55 55,55 -47,55 -55,47
Top Overlay:
  circle w9.84: c-213,70 r4.92
Mechanical 10:
  lines w7.87: -117.94,-117.94 -117.94,117.94 117.94,117.94 117.94,-117.94 -117.94,-117.94
  text ".Designator" at 0,7.39 h39.37
Mechanical 12:
  lines w7.87: -101,-101 -101,101 101,101 101,-101 -101,-101
Mechanical 15:
  lines w3.94: -19.68,0 19.68,0 ; 0,-19.68 0,19.68
  lines w7.87: -117.94,-117.94 -117.94,117.94 117.94,117.94 117.94,-117.94 -117.94,-117.94
3D body "IC_Mini-Circuits_EP2RKU+_eec.STEP": height 10, standoff 0, extent -117.94,-117.94 117.94,117.94

## EP4RKU+ [mil] "DG1677-2"
height 39.37
pads (33):
  rrect100% 35x12 smd paste+0 mask+0: 1(-96.5,70) 2(-96.5,50) 3(-96.5,30) 4(-96.5,10) 5(-96.5,-10) 6(-96.5,-30) 7(-96.5,-50) 8(-96.5,-70) 17(96.5,-70) 18(96.5,-50) 19(96.5,-30) 20(96.5,-10) 21(96.5,10) 22(96.5,30) 23(96.5,50) 24(96.5,70)
  rrect100% 12x35 smd paste+0 mask+0: 9(-70,-96.5) 10(-50,-96.5) 11(-30,-96.5) 12(-10,-96.5) 13(10,-96.5) 14(30,-96.5) 15(50,-96.5) 16(70,-96.5) 25(70,96.5) 26(50,96.5) 27(30,96.5) 28(10,96.5) 29(-10,96.5) 30(-30,96.5) 31(-50,96.5) 32(-70,96.5)
  rect 10x10 smd paste+0 mask+0: 33(0,0)
via 60,20 diameter 12 hole 6
via 60,40 diameter 12 hole 6
via 40,60 diameter 12 hole 6
via 20,60 diameter 12 hole 6
via -20,60 diameter 12 hole 6
via -40,60 diameter 12 hole 6
via -60,40 diameter 12 hole 6
via -60,20 diameter 12 hole 6
via -60,-20 diameter 12 hole 6
via -60,-40 diameter 12 hole 6
via -40,-60 diameter 12 hole 6
via -20,-60 diameter 12 hole 6
via 60,-40 diameter 12 hole 6
via 60,-20 diameter 12 hole 6
via -20,-40 diameter 12 hole 6
via -40,-40 diameter 12 hole 6
via -40,-20 diameter 12 hole 6
via -40,20 diameter 12 hole 6
via -40,40 diameter 12 hole 6
via -20,40 diameter 12 hole 6
via -20,20 diameter 12 hole 6
via -20,-20 diameter 12 hole 6
via 40,-60 diameter 12 hole 6
via 20,-60 diameter 12 hole 6
via 20,-40 diameter 12 hole 6
via 40,-40 diameter 12 hole 6
via 40,-20 diameter 12 hole 6
via 20,-20 diameter 12 hole 6
via 40,40 diameter 12 hole 6
via 40,20 diameter 12 hole 6
via 20,40 diameter 12 hole 6
via 20,20 diameter 12 hole 6
via 0,-60 diameter 12 hole 6
via 0,-40 diameter 12 hole 6
via 0,-20 diameter 12 hole 6
via 0,60 diameter 12 hole 6
via 0,40 diameter 12 hole 6
via 0,20 diameter 12 hole 6
via -60,0 diameter 12 hole 6
via -40,0 diameter 12 hole 6
via -20,0 diameter 12 hole 6
via 60,0 diameter 12 hole 6
via 40,0 diameter 12 hole 6
via 20,0 diameter 12 hole 6
via 0,0 diameter 12 hole 6
Top Layer:
  region: -55,-55 -55,50 -50,55 55,55 55,-55
Top Overlay:
  circle w9.84: c-192,70 r4.92
Top Paste:
  region: -55,-55 -55,50 -50,55 55,55 55,-55
Top Solder:
  region: -55,-55 -55,50 -50,55 55,55 55,-55
Mechanical 10:
  lines w7.87: -117.94,-117.94 -117.94,117.94 117.94,117.94 117.94,-117.94 -117.94,-117.94
  text ".Designator" at 0,7.39 h39.37
Mechanical 12:
  lines w7.87: -101,-101 -101,101 101,101 101,-101 -101,-101
Mechanical 15:
  lines w3.94: -19.68,0 19.68,0 ; 0,-19.68 0,19.68
  lines w7.87: -117.94,-117.94 -117.94,117.94 117.94,117.94 117.94,-117.94 -117.94,-117.94
3D body "IC_Mini-Circuits_EP4RKU+_eec.STEP": height 10, standoff 0, extent -117.94,-117.94 117.94,117.94

## FP-DRV0006A-MFG [mm]
pads (7):
  rrect33% 0.45x0.3 smd paste+0 mask+0: 1(-0.975,0.65) 2(-0.975,0) 3(-0.975,-0.65) 4(0.975,-0.65) 5(0.975,0) 6(0.975,0.65)
  rrect10% 1x1.6 smd paste-1000 mask+0: 7(0,0)
via 0,-0.55 diameter 0.5 hole 0.2
via 0,0.55 diameter 0.5 hole 0.2
Top Overlay:
  circle w0.25: c-0.975,1.676 r0.125
Top Paste:
  region: -0.5,-0.15 -0.5,-0.14 -0.492,-0.122 -0.478,-0.108 -0.46,-0.1 -0.45,-0.1 0.45,-0.1 0.46,-0.1 0.478,-0.108 0.492,-0.122 0.5,-0.14 0.5,-0.15 0.5,-0.75 0.5,-0.76 0.492,-0.778 0.478,-0.792 0.46,-0.8 0.45,-0.8 -0.45,-0.8 -0.46,-0.8 -0.478,-0.792 -0.492,-0.778 -0.5,-0.76 -0.5,-0.75
  region: 0.45,0.8 0.46,0.8 0.478,0.792 0.492,0.778 0.5,0.76 0.5,0.75 0.5,0.15 0.5,0.14 0.492,0.122 0.478,0.108 0.46,0.1 0.45,0.1 -0.45,0.1 -0.46,0.1 -0.478,0.108 -0.492,0.122 -0.5,0.14 -0.5,0.15 -0.5,0.75 -0.5,0.76 -0.492,0.778 -0.478,0.792 -0.46,0.8 -0.45,0.8
Top 3D Body:
  lines w0.2: -1.05,-1.05 -1.05,1.05 1.05,1.05 1.05,-1.05 -1.05,-1.05
Top Courtyard:
  lines w0.2: -1.3,-1.15 -1.3,1.15 1.3,1.15 1.3,-1.15 -1.3,-1.15
Top Assembly:
  lines w0.2: -1.3,-1.15 -1.3,1.15 1.3,1.15 1.3,-1.15 -1.3,-1.15
  text ".Designator" at 1.651,-0.066 h1
3D body "IC_Texas_Instruments_TPS7A2501DRVR_eec.STEP": height 0.25, standoff 0, extent -1.3,-1.15 1.3,1.15

## HCP_12_1 [mm] "HMC814LC3B QFN12"
pads (13):
  rect 0.32x0.3 smd paste+0 mask+0: 1(-1.21,0.5) 2(-1.21,0) 3(-1.21,-0.5) 7(1.21,-0.5) 8(1.21,0) 9(1.21,0.5)
  rect 0.3x0.32 smd paste+0 mask+0: 4(-0.5,-1.21) 5(0,-1.21) 6(0.5,-1.21) 10(0.5,1.21) 11(0,1.21) 12(-0.5,1.21)
  rect 1.25x1.25 smd paste-0.612 mask+0: 13(0,0)
via 0,0 diameter 0.305 hole 0.152
via 0.4,0.4 diameter 0.305 hole 0.152
via -0.4,-0.4 diameter 0.305 hole 0.152
via 0.4,-0.4 diameter 0.305 hole 0.152
via -0.4,0.4 diameter 0.305 hole 0.152
Top Overlay:
  circle w0.25: c-2.743,0.5 r0.125
Top Paste:
  region: 0.625,0.625 -0.625,0.625 -0.625,-0.625 0.625,-0.625
Mechanical 13:
  lines w0.025: -1.5,-1.5 -1.5,1.5 1.5,1.5 1.5,-1.5 -1.5,-1.5 ; -1.5,-0.65 -1.5,-0.35 -1.5,-0.65 ; -1.5,-0.15 -1.5,0.15 -1.5,-0.15 ; -1.5,0.35 -1.5,0.65 -1.5,0.35 ; -0.65,-1.5 -0.35,-1.5 -0.65,-1.5 ; -0.65,1.5 -0.35,1.5 -0.65,1.5 ; -0.15,-1.5 0.15,-1.5 -0.15,-1.5 ; -0.15,1.5 0.15,1.5 -0.15,1.5 ; 0.35,-1.5 0.65,-1.5 0.35,-1.5 ; 0.35,1.5 0.65,1.5 0.35,1.5 ; 1.5,-0.65 1.5,-0.35 1.5,-0.65 ; 1.5,-0.15 1.5,0.15 1.5,-0.15 ; 1.5,0.35 1.5,0.65 1.5,0.35
3D body "HMC814LC3BTR.step": height 0.92, standoff 0, extent -1.5,-1.5 1.5,1.5